# Altium schematic symbol library ICs.SchLib: 12 symbols
Pins are listed as number, name and electrical type; pins without a type are passive.

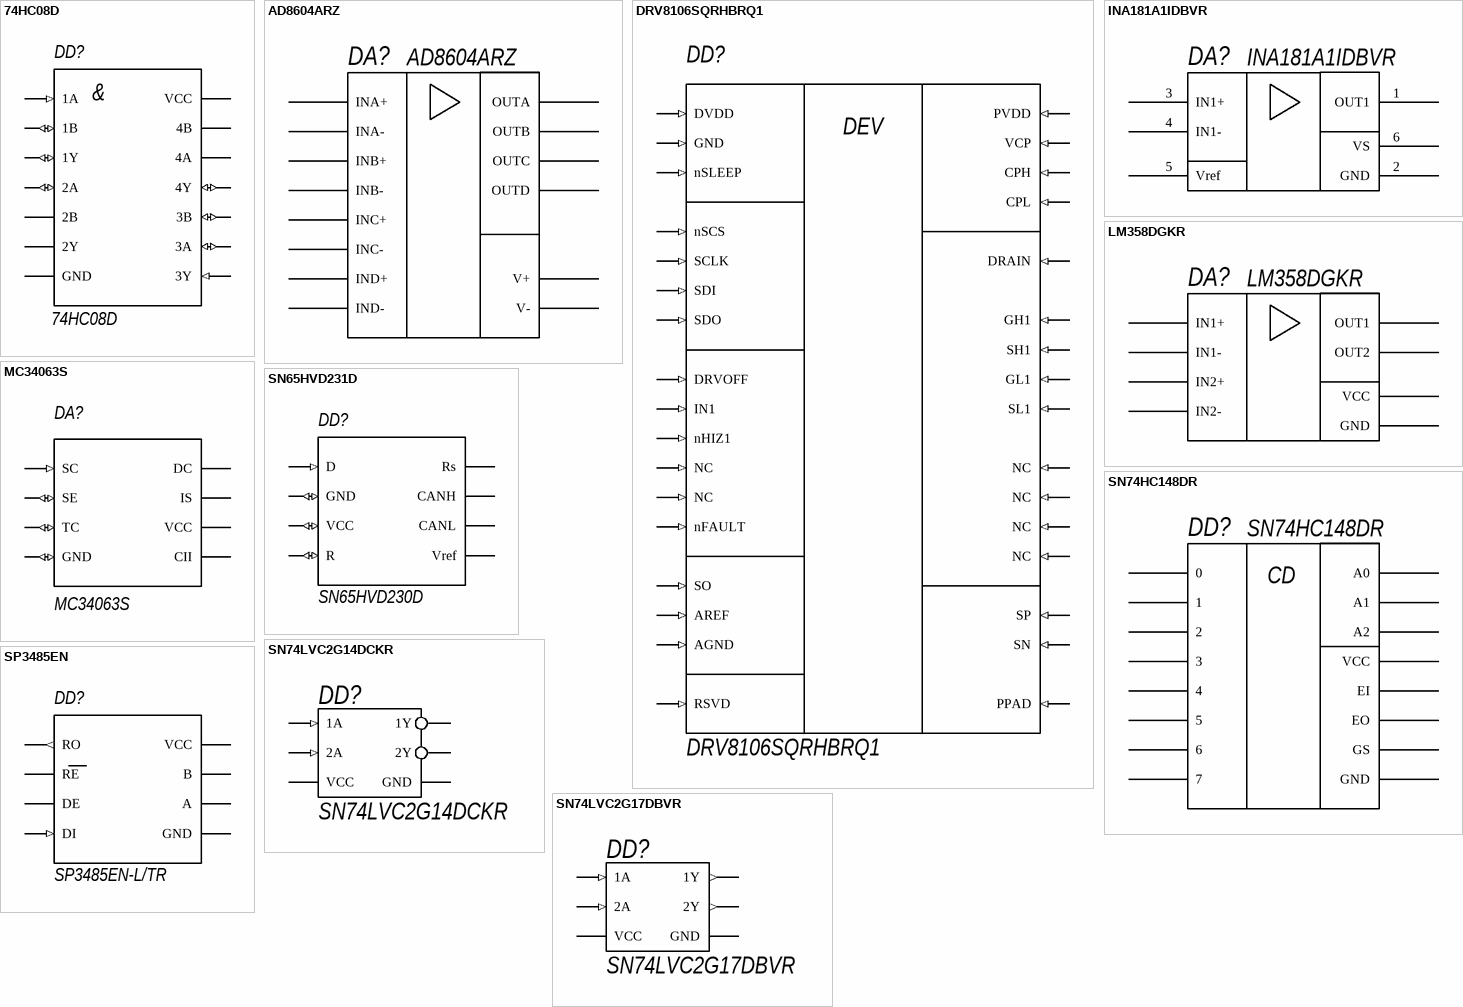
[diagram p0: symbols 74HC08D to SP3485EN]

## 74HC08D
designator DD?
Логическая ИС, QUAD 2-INPUT AND GATE
footprint SO14
pins: 1 1A (in), 2 1B (io), 3 1Y (io), 4 2A (io), 5 2B (power), 6 2Y (power), 7 GND (power), 8 3Y (in), 9 3A (io), 10 3B (io), 11 4Y (io), 12 4A (power), 13 4B (power), 14 VCC (power)
text: &

## AD8604ARZ
designator DA?
Тип Прецизионный операционный усилитель серии AD8604 / Корпус SOIC-14(SMD) / MSL(Уровень чувствительности к влажности) 1 / Входное напряжение смещения нуля(Vos)-80 мкВ / Входной ток смещения(Ib)-0.2 пА(max) / Выходной ток на канал-30 мА / Диапазон рабочих температур -40…+125 °С / Количество каналов-4; тип выхода-Rail-to-Rail / Напряжение питания 2.7…6(max)В / Потребляемый ток 750 мкА / Способ монтажа поверхностный(SMT) / Упаковка REEL, 1000 шт. / Усиление по напряжению-98.06 дБ
footprint SOIC-14
pins: 1 OUTA "Информационный вход Х6", 2 INA-, 3 INA+, 4 V+ "Информационный вход Х6", 5 INB+, 6 INB-, 7 OUTB "Информационный вход Х6", 8 OUTC "Информационный вход Х6", 9 INC-, 10 INC+, 11 V- (power) "Информационный вход Х6", 12 IND+, 13 IND-, 14 OUTD "Информационный вход Х6"

## DRV8106SQRHBRQ1
designator DD?
Automotive, 40-V, half-bridge Smart Gate Driver w/offline diagnostics and inline current sense amp.
footprint VQFN32 (QFN, 32-Leads, Body 5,00x5,00mm, Pitch 0,50mm, Thermal Pad 3,45x3,45mm, IPC Medium Density)
pins: 0 PPAD (in), 1 GND (in), 2 DVDD (in), 3 nSCS (in), 4 SCLK (in), 5 SDI (in), 6 SDO (in), 7 IN1 (in), 8 nHIZ1 (in), 9 NC (in), 10 NC (in), 11 nSLEEP (in), 12 DRVOFF (in), 13 nFAULT (in), 14 SO (in), 15 RSVD (in), 16 AREF (in), 17 AGND (in), 18 SP (in), 19 SN (in), 20 GH1 (in), 21 SH1 (in), 22 GL1 (in), 23 SL1 (in), 24 NC (in), 25 NC (in), 26 NC (in), 27 NC (in), 28 DRAIN (in), 29 PVDD (in), 30 VCP (in), 31 CPH (in), 32 CPL (in)
text: DEV

## INA181A1IDBVR
designator DA?
Усилители операционные, дифференциальные, инструментальные, Gain 20, SOT236
footprint SOT23-6 (SOT23, 6-Leads, Body 2,90x2,45mm, Pitch 0,95mm, IPC Medium Density)
pins: 1 OUT1 "Информационный вход Х6", 2 GND (power) "Информационный вход Х6", 3 IN1+, 4 IN1-, 5 Vref "Информационный вход Х6", 6 VS "Информационный вход Х6"

## LM358DGKR
designator DA?
Операционный усилитель, Двойной, 700 кГц, 0.3 В/мкс, 3В до 32В, ± 1.5В до ± 16В, [VSSOP-8]
footprint VSSOP8-MSOP8(TexasInstruments)
pins: 1 OUT1 "Информационный вход Х6", 2 IN1-, 3 IN1+, 4 GND (power) "Информационный вход Х6", 5 IN2+, 6 IN2-, 7 OUT2 "Информационный вход Х6", 8 VCC "Информационный вход Х6"

## MC34063S
designator DA?
The MC34063 / MC33063ADR is a monolithic regulator subsystem, / intended for use as DC to DC converter. This device contains a / temperature compensated band gap reference, a duty-cycle / control oscillator, driver and high current output switch. It can be / used for step down, step-up or inverting switching regulators as / well as for series pass regulators.
footprint SOP-8 WithoutTP
pins: 1 SC (in), 2 SE (io), 3 TC (io), 4 GND (io), 5 CII (power), 6 VCC (power), 7 IS (power), 8 DC (power)

## SN65HVD231D
designator DD?, comment SN65HVD230D
CAN-Трансивер, 3.3V, 1Mbps, ESD=16кВ, Stan-by режим
footprint SOIC-8 WIthoutTP (SOIC, 8-Leads, Body 4,90x3,90mm, Pitch 1,27mm, IPC Medium Density)
pins: 1 D (in), 2 GND (io), 3 VCC (io), 4 R (io), 5 Vref (power), 6 CANL (power), 7 CANH (power), 8 Rs (power)

## SN74HC148DR
designator DD?
Шифратор с 8-и до 3-х линий передачи данных [SO-16]
footprint SOIC-16 (SOIC, 16-Leads, Body 9,90x3,90mm, Pitch 1,27mm, IPC Medium Density)
pins: 1 4, 2 5, 3 6, 4 7, 5 EI, 6 A2 "Информационный вход Х6", 6 EO, 7 A1 "Информационный вход Х6", 8 GND (power) "Информационный вход Х6", 9 A0 "Информационный вход Х6", 10 0, 11 1, 12 2, 13 3, 14 GS, 16 VCC "Информационный вход Х6"
text: CD

## SN74LVC2G14DCKR
designator DD?
Сдвоенный инвертор с триггером Шмидта
footprint SOT363 (SC70-6)
pins: 1 1A (in) "Информационный вход Х6", 2 GND (power) "Информационный вход Х6", 3 2A (in) "Информационный вход Х6", 4 2Y (out) "Информационный вход Х6", 5 VCC (power) "Информационный вход Х6", 6 1Y (out) "Информационный вход Х6"

## SN74LVC2G17DBVR
designator DD?
Сдвоенный буфер с триггером Шмитта на входе
footprint SOT23-6 (SOT23, 6-Leads, Body 2,90x2,45mm, Pitch 0,95mm, IPC Medium Density)
pins: 1 1A (in) "Информационный вход Х6", 2 GND (power) "Информационный вход Х6", 3 2A (in) "Информационный вход Х6", 4 2Y (out) "Информационный вход Х6", 5 VCC (power) "Информационный вход Х6", 6 1Y (out) "Информационный вход Х6"

## SP3485EN
designator DD?, comment SP3485EN-L/TR
Трансивер RS485 Half-Duplex 1/1
footprint SOIC-8 WIthoutTP (SOIC, 8-Leads, Body 4,90x3,90mm, Pitch 1,27mm, IPC Medium Density)
pins: 1 RO (out), 2 RE, 3 DE, 4 DI (in), 5 GND (power), 6 A (power), 7 B (power), 8 VCC (power)

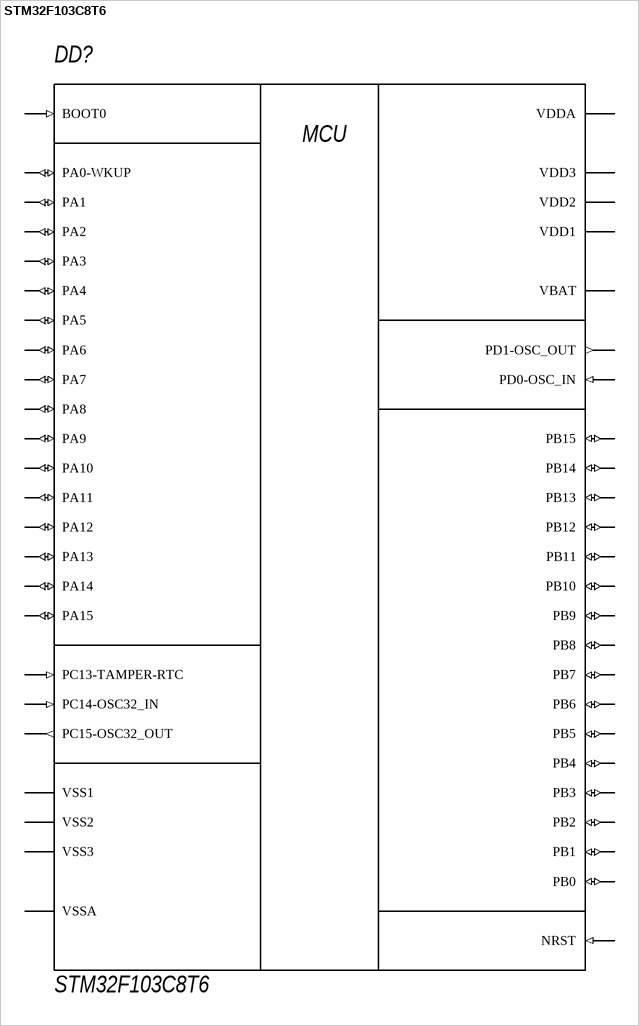
[diagram p1: symbol STM32F103C8T6]

## STM32F103C8T6
designator DD?
Medium-density performance line Arm®-based 32-bit MCU with / 64 or 128 KB Flash, USB, CAN, 7 timers, 2 ADCs, 9 com. interfaces
footprint LQFP-48
pins: 1 VBAT (power), 2 PC13-TAMPER-RTC (in), 3 PC14-OSC32_IN (in), 4 PC15-OSC32_OUT (out), 5 PD0-OSC_IN (in), 6 PD1-OSC_OUT (out), 7 NRST (in), 8 VSSA (power), 9 VDDA (power), 10 PA0-WKUP (io), 11 PA1 (io), 12 PA2 (io), 13 PA3 (io), 14 PA4 (io), 15 PA5 (io), 16 PA6 (io), 17 PA7 (io), 18 PB0 (io), 19 PB1 (io), 20 PB2 (io), 21 PB10 (io), 22 PB11 (io), 23 VSS1 (power), 24 VDD1 (power), 25 PB12 (io), 26 PB13 (io), 27 PB14 (io), 28 PB15 (io), 29 PA8 (io), 30 PA9 (io), 31 PA10 (io), 32 PA11 (io), 33 PA12 (io), 34 PA13 (io), 35 VSS2 (power), 36 VDD2 (power), 37 PA14 (io), 38 PA15 (io), 39 PB3 (io), 40 PB4 (io), 41 PB5 (io), 42 PB6 (io), 43 PB7 (io), 44 BOOT0 (in), 45 PB8 (io), 46 PB9 (io), 47 VSS3 (power), 48 VDD3 (power)
text: MCU